# EAGLE library part SI5351A (library Si5351A)
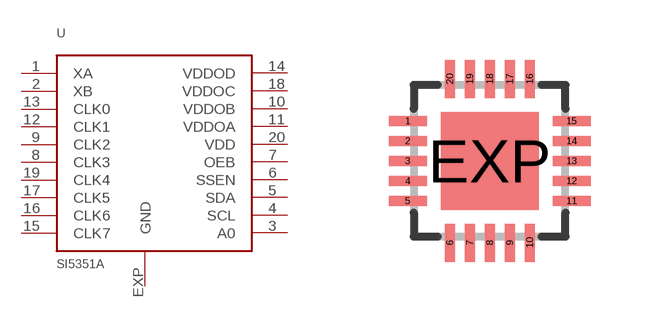
[diagram p0: symbol with the pads of QFN20; footprint QFN20]

Designator prefix -

## SI5351A  [QFN20]
1  XA
2  XB
3  A0
4  SCL
5  SDA
6  SSEN
7  OEB
8  CLK3
9  CLK2
10  VDDOB
11  VDDOA
12  CLK1
13  CLK0
14  VDDOD
15  CLK7
16  CLK6
17  CLK5
18  VDDOC
19  CLK4
20  VDD
EXP  GND

## Footprint QFN20 (pad centres in mm)
ES Package, 20-Contact QFN with Exposed Thermal Pad Data sheet <http://www.allegromicro.com/en/Products/Part_Numbers/3906/3906.pdf>
smd 0.95 x 0.25: 1 -2.05,1; 2 -2.05,0.5; 3 -2.05,0; 4 -2.05,-0.5; 5 -2.05,-1; 11 2.05,-1; 12 2.05,-0.5; 13 2.05,0; 14 2.05,0.5; 15 2.05,1
smd 0.25 x 0.95: 6 -1,-2.05; 7 -0.5,-2.05; 8 0,-2.05; 9 0.5,-2.05; 10 1,-2.05; 16 1,2.05; 17 0.5,2.05; 18 0,2.05; 19 -0.5,2.05; 20 -1,2.05
smd 2.45 x 2.45: EXP 0,0